# EAGLE library part LCD16X2RGB (library SparkFun-Displays-modified)
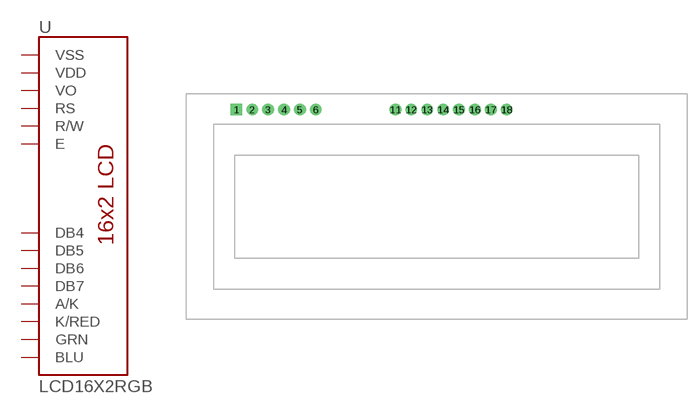
[diagram p7: symbol with the pads of LCD16X2RGB; footprint LCD16X2RGB]

Designator prefix -

## LCD16X2RGB  [LCD16X2RGB]
1  VSS  pwr
2  VDD  pwr
3  VO
4  RS  in
5  R/W  in
6  E  in
11  DB4
12  DB5
13  DB6
14  DB7
15  A/K  pwr
16  K/RED  pwr
17  GRN  pwr
18  BLU  pwr

## Footprint LCD16X2RGB (pad centres in mm)
LCD-16x2 No silk or mounting holes For Standard hitatchi type LCDs with backlight. Has 16 pin connection and outline on docu, but no silk or mounting holes. Specifications: Pin count: 16 Pin pitch: 0.1" Area: Datasheet referenced for footprint: Example device(s): Basic 16x2 LCD <https://www.sparkfun.com/products/255>
drill 1.016 pad 1.88 square: 1 -32,15.5
drill 1.016 pad 1.88: 2 -29.46,15.5; 3 -26.92,15.5; 4 -24.38,15.5; 5 -21.84,15.5; 6 -19.3,15.5; 11 -6.6,15.5; 12 -4.06,15.5; 13 -1.52,15.5; 14 1.02,15.5; 15 3.56,15.5; 16 6.1,15.5; 17 8.64,15.5; 18 11.18,15.5